# Altium schematic symbol library Connector - CRD.SchLib: 20 symbols
Pins are listed as number, name and electrical type; pins without a type are passive.

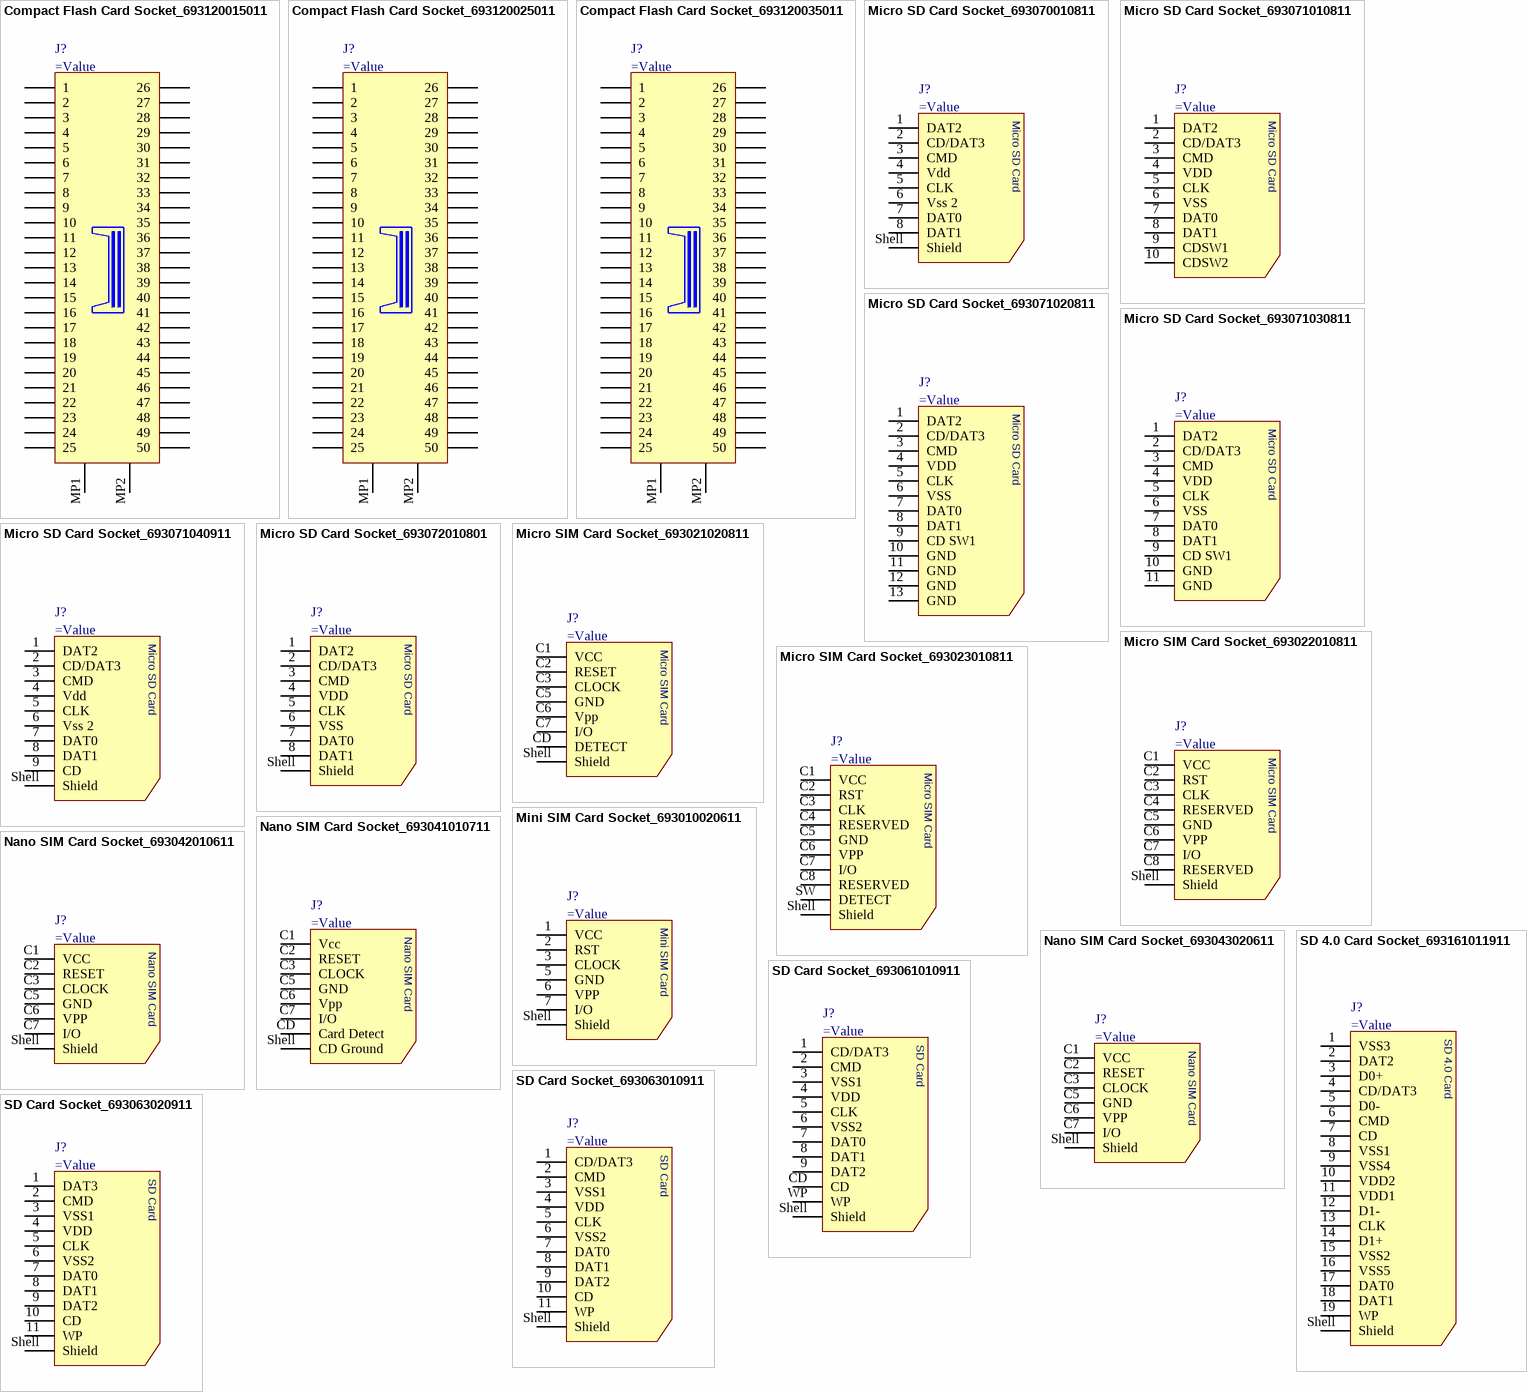
[diagram p0: symbols Compact Flash Card Socket_693120015011 to SD Card Socket_693063020911]

## Compact Flash Card Socket_693120015011
designator J?
pins: 1, 2, 3, 4, 5, 6, 7, 8, 9, 10, 11, 12, 13, 14, 15, 16, 17, 18, 19, 20, 21, 22, 23, 24, 25, 26, 27, 28, 29, 30, 31, 32, 33, 34, 35, 36, 37, 38, 39, 40, 41, 42, 43, 44, 45, 46, 47, 48, 49, 50, MP1, MP2

## Compact Flash Card Socket_693120025011
designator J?
pins: 1, 2, 3, 4, 5, 6, 7, 8, 9, 10, 11, 12, 13, 14, 15, 16, 17, 18, 19, 20, 21, 22, 23, 24, 25, 26, 27, 28, 29, 30, 31, 32, 33, 34, 35, 36, 37, 38, 39, 40, 41, 42, 43, 44, 45, 46, 47, 48, 49, 50, MP1, MP2

## Compact Flash Card Socket_693120035011
designator J?
pins: 1, 2, 3, 4, 5, 6, 7, 8, 9, 10, 11, 12, 13, 14, 15, 16, 17, 18, 19, 20, 21, 22, 23, 24, 25, 26, 27, 28, 29, 30, 31, 32, 33, 34, 35, 36, 37, 38, 39, 40, 41, 42, 43, 44, 45, 46, 47, 48, 49, 50, MP1, MP2

## Micro SD Card Socket_693070010811
designator J?
pins: 1 DAT2, 2 CD/DAT3, 3 CMD, 4 Vdd, 5 CLK, 6 Vss 2, 7 DAT0, 8 DAT1, Shell Shield
text: Micro SD Card

## Micro SD Card Socket_693071010811
designator J?
pins: 1 DAT2, 2 CD/DAT3, 3 CMD, 4 VDD, 5 CLK, 6 VSS, 7 DAT0, 8 DAT1, 9 CDSW1, 10 CDSW2
text: Micro SD Card

## Micro SD Card Socket_693071020811
designator J?
pins: 1 DAT2, 2 CD/DAT3, 3 CMD, 4 VDD, 5 CLK, 6 VSS, 7 DAT0, 8 DAT1, 9 CD SW1 , 10 GND, 11 GND, 12 GND, 13 GND
text: Micro SD Card

## Micro SD Card Socket_693071030811
designator J?
pins: 1 DAT2, 2 CD/DAT3, 3 CMD, 4 VDD, 5 CLK, 6 VSS, 7 DAT0, 8 DAT1, 9 CD SW1 , 10 GND, 11 GND
text: Micro SD Card

## Micro SD Card Socket_693071040911
designator J?
pins: 1 DAT2, 2 CD/DAT3, 3 CMD, 4 Vdd, 5 CLK, 6 Vss 2, 7 DAT0, 8 DAT1, 9 CD, Shell Shield
text: Micro SD Card

## Micro SD Card Socket_693072010801
designator J?
pins: 1 DAT2, 2 CD/DAT3, 3 CMD, 4 VDD, 5 CLK, 6 VSS, 7 DAT0, 8 DAT1, Shell Shield
text: Micro SD Card

## Micro SIM Card Socket_693021020811
designator J?
pins: C1 VCC, C2 RESET, C3 CLOCK, C5 GND, C6 Vpp, C7 I/O, CD DETECT, Shell Shield
text: Micro SIM Card

## Micro SIM Card Socket_693022010811
designator J?
pins: C1 VCC, C2 RST, C3 CLK, C4 RESERVED, C5 GND, C6 VPP, C7 I/O, C8 RESERVED, Shell Shield
text: Micro SIM Card

## Micro SIM Card Socket_693023010811
designator J?
pins: C1 VCC, C2 RST, C3 CLK, C4 RESERVED, C5 GND, C6 VPP, C7 I/O, C8 RESERVED, Shell Shield, SW DETECT
text: Micro SIM Card

## Mini SIM Card Socket_693010020611
designator J?
pins: 1 VCC, 2 RST, 3 CLOCK, 5 GND, 6 VPP, 7 I/O, Shell Shield
text: Mini SIM Card

## Nano SIM Card Socket_693041010711
designator J?
pins: C1 Vcc, C2 RESET, C3 CLOCK, C5 GND, C6 Vpp, C7 I/O, CD Card Detect, Shell CD Ground
text: Nano SIM Card

## Nano SIM Card Socket_693042010611
designator J?
pins: C1 VCC, C2 RESET, C3 CLOCK, C5 GND, C6 VPP, C7 I/O, Shell Shield
text: Nano SIM Card

## Nano SIM Card Socket_693043020611
designator J?
pins: C1 VCC, C2 RESET, C3 CLOCK, C5 GND, C6 VPP, C7 I/O, Shell Shield
text: Nano SIM Card

## SD 4.0 Card Socket_693161011911
designator J?
pins: 1 VSS3, 2 DAT2, 3 D0+, 4 CD/DAT3, 5 D0-, 6 CMD, 7 CD, 8 VSS1, 9 VSS4, 10 VDD2, 11 VDD1, 12 D1-, 13 CLK, 14 D1+, 15 VSS2, 16 VSS5, 17 DAT0, 18 DAT1, 19 WP, Shell Shield
text: SD 4.0 Card

## SD Card Socket_693061010911
designator J?
pins: 1 CD/DAT3, 2 CMD, 3 VSS1, 4 VDD, 5 CLK, 6 VSS2, 7 DAT0, 8 DAT1, 9 DAT2, CD, Shell Shield, WP
text: SD Card

## SD Card Socket_693063010911
designator J?
pins: 1 CD/DAT3, 2 CMD, 3 VSS1, 4 VDD, 5 CLK, 6 VSS2, 7 DAT0, 8 DAT1, 9 DAT2, 10 CD, 11 WP, Shell Shield
text: SD Card

## SD Card Socket_693063020911
designator J?
pins: 1 DAT3, 2 CMD, 3 VSS1, 4 VDD, 5 CLK, 6 VSS2, 7 DAT0, 8 DAT1, 9 DAT2, 10 CD, 11 WP, Shell Shield
text: SD Card